# Altium schematic symbol library DF13A-15P-1.25H(21).SchLib: 1 symbol
Pins are listed as number, name and electrical type; pins without a type are passive.

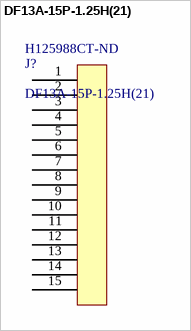
[diagram p0: symbol DF13A-15P-1.25H(21)]

## DF13A-15P-1.25H(21)
designator J?  Supplier Part Number 1: H125988CT-ND
15 pos DF13 right angle surface mount connector; Supplier 1: Digi-Key
footprint DF13A-15P-1.25H(21) (15 pos, 1.25mm pitch DF13 connector (H125988CT-ND))
pins: 1, 2, 3, 4, 5, 6, 7, 8, 9, 10, 11, 12, 13, 14, 15